# Altium schematic symbol library ADA4691-2.Schlib: 1 symbol
Pins are listed as number, name and electrical type; pins without a type are passive.

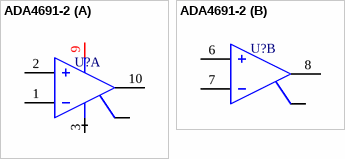
[diagram p0: symbol ADA4691-2]

## ADA4691-2
designator U?
part A pins: 1 -IN A, 2 -IN A, 3 V-, 4 SD A, 9 V+, 10 OUTA
part B pins: 5 SD B, 6 +IN B, 7 -IN B, 8 OUTB